# Altium schematic symbol library FCSLIB.SchLib: 1 symbol
Pins are listed as number, name and electrical type; pins without a type are passive.

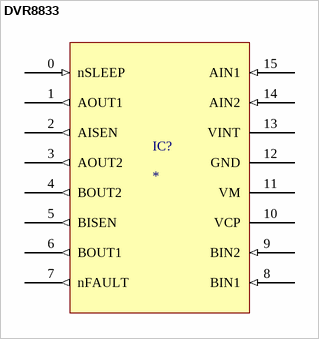
[diagram p0: symbol DVR8833]

## DVR8833
designator IC?
DRV8833
footprint DRV8833 TSOP (Dual H-Bridge Motor Driver)
pins: 0 nSLEEP (in) "Sleep mode input", 1 AOUT1 (out) "Bridge A output 1", 2 AISEN (out) "Bridge A ground / ISENSE", 3 AOUT2 (out) "Bridge A output 2", 4 BOUT2 (out) "Bridge B output 2", 5 BISEN (out) "Bridge B ground / ISENSE", 6 BOUT1 (out) "Bridge B output 1", 7 nFAULT (out) "Fault output", 8 BIN1 (in) "Bridge B input 1", 9 BIN2 (in) "Bridge B input 2", 10 VCP (power) "High-side gate drive voltage", 11 VM (power) "Device power supply", 12 GND (power) "Device ground", 13 VINT (power) "Internal supply bypass", 14 AIN2 (in) "Bridge A input 2", 15 AIN1 (in) "Bridge A input 1"